# Altium footprint library Connectors_PLUS_headers.PcbLib: 22 footprints (part 2 of 2)
Each footprint in its own frame and in the unit in brackets; x right, y up, seen from the top. Pads: shape width x height; smd on the part's side, far side on the other; paste and mask are expansions set on the pad; w line width, h text height; cw(c..) or ccw(c..) is an arc to the next point about the centre after c.
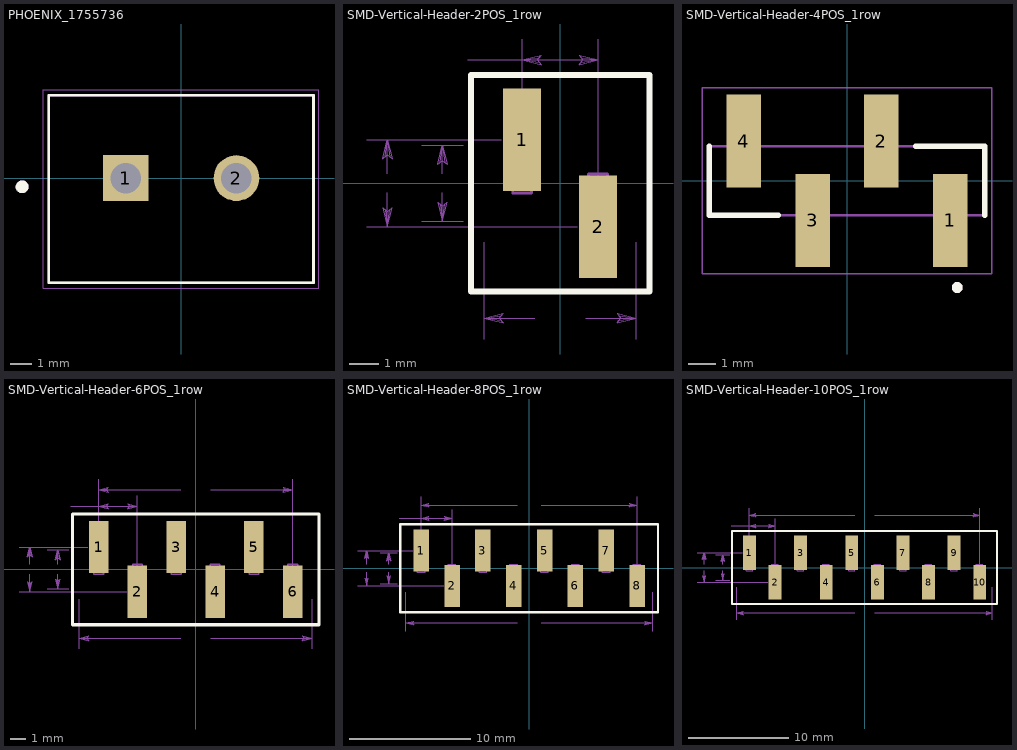
[diagram p1: the footprints below, top view; thin cyan lines are the x and y axes]

## PHOENIX_1755736 [mm] "Pluggable power connector"
height 15
pads (2):
  rect 2.1x2.1 hole 1.4: 1(-2.54,0)
  round 2.1 hole 1.4: 2(2.54,0)
Top Overlay:
  circle w0.3: c-7.3,-0.4 r0.141
  lines w0.127: -6.08,-4.8 -6.08,3.8 6.08,3.8 6.08,-4.8 -6.08,-4.8
Mechanical 13:
  circle w0.3: c-7.3,-0.4 r0.141
  lines w0.127: -6.08,-4.8 6.08,-4.8 6.08,3.8 -6.08,3.8 -6.08,-4.8
Mechanical 15:
  lines w0.05: -6.33,-5.05 6.33,-5.05 6.33,4.05 -6.33,4.05 -6.33,-5.05

## SMD-Vertical-Header-2POS_1row [mm]
pads (2):
  rect 1.27x3.43 smd: 1(-1.27,1.46) 2(1.27,-1.46)
Top Overlay:
  lines w0.2: -2.99,-3.627 2.99,-3.627 2.99,3.626 -2.99,3.626 -2.99,-3.627
Top Paste:
  rectangle: 0.635,-3.175 1.905,0.255
  rectangle: -1.905,-0.255 -0.635,3.175
Top Solder:
  rectangle: 0.584,-3.226 1.956,0.306
  rectangle: -1.956,-0.306 -0.584,3.226
Mechanical 16:
  lines w0.1: -1.586,-0.318 -0.951,-0.318 -0.951,0.318 -1.586,0.318 -1.586,-0.318 ; 0.951,-0.318 1.586,-0.318 1.586,0.318 0.951,0.318 0.951,-0.318
Mechanical 40:
  lines w0: -6.48,-1.46 0.569,-1.46 ; -6.48,1.46 -1.971,1.46 ; -5.778,-0.318 -5.778,-1.46 ; -5.778,0.318 -5.778,1.46 ; -4.638,-1.27 -3.241,-1.27 ; -4.638,1.27 -3.241,1.27 ; -3.937,-0.318 -3.937,-1.27 ; -3.937,0.318 -3.937,1.27 ; -3.086,4.128 -1.27,4.128 ; -2.54,-5.21 -2.54,-1.971 ; -1.27,2.162 -1.27,4.829 ; -0.851,-4.508 -2.54,-4.508 ; 0.851,-4.508 2.54,-4.508 ; 1.27,-0.759 1.27,4.829 ; 2.54,-5.21 2.54,-1.971 ; -5.937,-0.826 -5.858,-0.889 -5.778,-1.46 ; -5.937,-0.826 -5.778,-0.952 ; -5.937,-0.826 -5.778,-1.46 ; -5.778,-1.46 -5.778,-0.952 ; -5.778,-1.46 -5.699,-0.889 -5.778,-0.952 ; -5.778,-1.46 -5.62,-0.826 -5.778,-0.952 ; -5.778,0.952 -5.778,1.46 ; -5.778,0.952 -5.858,0.889 -5.778,1.46 ; -5.778,0.952 -5.62,0.826 ; -5.778,0.952 -5.937,0.826 -5.778,1.46 ; -5.778,1.46 -5.699,0.889 -5.62,0.826 ; -5.778,1.46 -5.62,0.826 ; -4.096,-0.635 -4.016,-0.698 -3.937,-1.27 ; -4.096,-0.635 -3.937,-0.762 ; -4.096,-0.635 -3.937,-1.27 ; -3.937,-1.27 -3.937,-0.762 ; -3.937,-1.27 -3.858,-0.698 -3.937,-0.762 ; -3.937,-1.27 -3.778,-0.635 -3.937,-0.762 ; -3.937,0.762 -3.937,1.27 ; -3.937,0.762 -4.016,0.698 -3.937,1.27 ; -3.937,0.762 -3.778,0.635 ; -3.937,0.762 -4.096,0.635 -3.937,1.27 ; -3.937,1.27 -3.858,0.698 -3.778,0.635 ; -3.937,1.27 -3.778,0.635 ; -2.54,-4.508 -1.968,-4.429 -1.905,-4.35 ; -2.54,-4.508 -2.032,-4.508 ; -2.54,-4.508 -1.968,-4.588 -2.032,-4.508 ; -2.54,-4.508 -1.905,-4.667 -2.032,-4.508 ; -2.54,-4.508 -1.905,-4.35 ; -2.032,-4.508 -1.905,-4.35 ; -1.27,4.128 1.27,4.128 ; -1.27,4.128 -0.698,4.207 -0.635,4.286 ; -1.27,4.128 -0.762,4.128 ; -1.27,4.128 -0.698,4.048 -0.762,4.128 ; -1.27,4.128 -0.635,3.969 -0.762,4.128 ; -1.27,4.128 -0.635,4.286 ; -0.762,4.128 -0.635,4.286 ; 0.635,3.969 0.698,4.048 1.27,4.128 ; 0.635,3.969 0.762,4.128 ; 0.635,3.969 1.27,4.128 ; 0.762,4.128 1.27,4.128 ; 0.762,4.128 0.698,4.207 1.27,4.128 ; 0.762,4.128 0.635,4.286 1.27,4.128 ; 1.905,-4.667 1.968,-4.588 2.54,-4.508 ; 1.905,-4.667 2.032,-4.508 ; 1.905,-4.667 2.54,-4.508 ; 2.032,-4.508 2.54,-4.508 ; 2.032,-4.508 1.968,-4.429 2.54,-4.508 ; 2.032,-4.508 1.905,-4.35 2.54,-4.508
  text "5.080" at -0.66,-4.636 h0.39
  text "2.540" at -4.597,4 h0.39
  text "2.540" at -4.597,-0.127 h0.39
  text "2.921" at -6.439,-0.127 h0.39
Mechanical 42:
  lines w0.1: -2.99,-3.627 2.99,-3.627 2.99,3.626 -2.99,3.626 -2.99,-3.627

## SMD-Vertical-Header-4POS_1row [mm] "2.54mm"
pads (4):
  rect 1.27x3.43 smd: 1(3.81,-1.46) 2(1.27,1.46) 3(-1.27,-1.46) 4(-3.81,1.46)
Top Overlay:
  circle w0.2: c4.06,-3.935 r0.1
  lines w0.2: -5.08,1.27 -5.08,-1.27 -2.54,-1.27 ; 2.54,1.27 5.08,1.27 5.08,-1.27
Mechanical 13:
  circle w0.2: c4.06,-3.935 r0.1
  lines w0.1: -5.08,-1.27 -5.08,1.27 5.08,1.27 5.08,-1.27 -5.08,-1.27
Mechanical 15:
  lines w0.05: -5.33,-3.425 -5.33,3.425 5.33,3.425 5.33,-3.425 -5.33,-3.425
3D body "TSM-104-01-F-SV-TR.stp": height 9.88, standoff 0.23, extent -5.08,-2.6 5.08,2.683

## SMD-Vertical-Header-6POS_1row [mm] "2.54"
pads (6):
  rect 1.27x3.43 smd: 1(-6.35,1.46) 2(-3.81,-1.46) 3(-1.27,1.46) 4(1.27,-1.46) 5(3.81,1.46) 6(6.35,-1.46)
Top Overlay:
  lines w0.2: -8.07,-3.627 8.07,-3.627 8.07,3.626 -8.07,3.626 -8.07,-3.627
Top Solder:
  rectangle: 5.664,-3.226 7.036,0.306
  rectangle: 3.124,-0.306 4.496,3.226
  rectangle: 0.584,-3.226 1.956,0.306
  rectangle: -1.956,-0.306 -0.584,3.226
  rectangle: -4.496,-3.226 -3.124,0.306
  rectangle: -7.036,-0.306 -5.664,3.226
Mechanical 16:
  lines w0.1: -6.666,-0.318 -6.031,-0.318 -6.031,0.318 -6.666,0.318 -6.666,-0.318 ; -4.129,-0.318 -3.494,-0.318 -3.494,0.318 -4.129,0.318 -4.129,-0.318 ; -1.586,-0.318 -0.951,-0.318 -0.951,0.318 -1.586,0.318 -1.586,-0.318 ; 0.951,-0.318 1.586,-0.318 1.586,0.318 0.951,0.318 0.951,-0.318 ; 3.494,-0.318 4.129,-0.318 4.129,0.318 3.494,0.318 3.494,-0.318 ; 6.031,-0.318 6.666,-0.318 6.666,0.318 6.031,0.318 6.031,-0.318
Mechanical 40:
  lines w0: -11.56,-1.46 -4.511,-1.46 ; -11.56,1.46 -7.051,1.46 ; -10.858,-0.318 -10.858,-1.46 ; -10.858,0.318 -10.858,1.46 ; -9.718,-1.27 -8.321,-1.27 ; -9.718,1.27 -8.321,1.27 ; -9.017,-0.318 -9.017,-1.27 ; -9.017,0.318 -9.017,1.27 ; -8.166,4.128 -6.35,4.128 ; -7.62,-5.21 -7.62,-1.971 ; -6.35,4.829 -6.35,2.162 -6.35,5.908 ; -3.81,-0.759 -3.81,4.829 ; -0.991,-4.508 -7.62,-4.508 ; -0.991,5.207 -6.35,5.207 ; 0.991,-4.508 7.62,-4.508 ; 0.991,5.207 6.35,5.207 ; 6.35,-0.759 6.35,5.908 ; 7.62,-5.21 7.62,-1.971 ; -11.017,-0.826 -10.938,-0.889 -10.858,-1.46 ; -11.017,-0.826 -10.858,-0.952 ; -11.017,-0.826 -10.858,-1.46 ; -10.858,-1.46 -10.858,-0.952 ; -10.858,-1.46 -10.779,-0.889 -10.858,-0.952 ; -10.858,-1.46 -10.7,-0.826 -10.858,-0.952 ; -10.858,0.952 -10.858,1.46 ; -10.858,0.952 -10.938,0.889 -10.858,1.46 ; -10.858,0.952 -10.7,0.826 ; -10.858,0.952 -11.017,0.826 -10.858,1.46 ; -10.858,1.46 -10.779,0.889 -10.7,0.826 ; -10.858,1.46 -10.7,0.826 ; -9.176,-0.635 -9.096,-0.698 -9.017,-1.27 ; -9.176,-0.635 -9.017,-0.762 ; -9.176,-0.635 -9.017,-1.27 ; -9.017,-1.27 -9.017,-0.762 ; -9.017,-1.27 -8.938,-0.698 -9.017,-0.762 ; -9.017,-1.27 -8.858,-0.635 -9.017,-0.762 ; -9.017,0.762 -9.017,1.27 ; -9.017,0.762 -9.096,0.698 -9.017,1.27 ; -9.017,0.762 -8.858,0.635 ; -9.017,0.762 -9.176,0.635 -9.017,1.27 ; -9.017,1.27 -8.938,0.698 -8.858,0.635 ; -9.017,1.27 -8.858,0.635 ; -7.62,-4.508 -7.048,-4.429 -6.985,-4.35 ; -7.62,-4.508 -7.112,-4.508 ; -7.62,-4.508 -7.048,-4.588 -7.112,-4.508 ; -7.62,-4.508 -6.985,-4.667 -7.112,-4.508 ; -7.62,-4.508 -6.985,-4.35 ; -7.112,-4.508 -6.985,-4.35 ; -6.35,4.128 -3.81,4.128 ; -6.35,4.128 -5.778,4.207 -5.715,4.286 ; -6.35,4.128 -5.842,4.128 ; -6.35,4.128 -5.778,4.048 -5.842,4.128 ; -6.35,4.128 -5.715,3.969 -5.842,4.128 ; -6.35,4.128 -5.715,4.286 ; -6.35,5.207 -5.778,5.286 -5.715,5.366 ; -6.35,5.207 -5.842,5.207 ; -6.35,5.207 -5.778,5.128 -5.842,5.207 ; -6.35,5.207 -5.715,5.048 -5.842,5.207 ; -6.35,5.207 -5.715,5.366 ; -5.842,4.128 -5.715,4.286 ; -5.842,5.207 -5.715,5.366 ; -4.445,3.969 -4.382,4.048 -3.81,4.128 ; -4.445,3.969 -4.318,4.128 ; -4.445,3.969 -3.81,4.128 ; -4.318,4.128 -3.81,4.128 ; -4.318,4.128 -4.382,4.207 -3.81,4.128 ; -4.318,4.128 -4.445,4.286 -3.81,4.128 ; 5.715,5.048 5.778,5.128 6.35,5.207 ; 5.715,5.048 5.842,5.207 ; 5.715,5.048 6.35,5.207 ; 5.842,5.207 6.35,5.207 ; 5.842,5.207 5.778,5.286 6.35,5.207 ; 5.842,5.207 5.715,5.366 6.35,5.207 ; 6.985,-4.667 7.048,-4.588 7.62,-4.508 ; 6.985,-4.667 7.112,-4.508 ; 6.985,-4.667 7.62,-4.508 ; 7.112,-4.508 7.62,-4.508 ; 7.112,-4.508 7.048,-4.429 7.62,-4.508 ; 7.112,-4.508 6.985,-4.35 7.62,-4.508
  text "12.700" at -0.8,5.08 h0.39
  text "15.240" at -0.8,-4.636 h0.39
  text "2.540" at -9.677,4 h0.39
  text "2.540" at -9.677,-0.127 h0.39
  text "2.921" at -11.519,-0.127 h0.39
Mechanical 42:
  lines w0.1: -8.07,-3.627 8.07,-3.627 8.07,3.626 -8.07,3.626 -8.07,-3.627
3D body "TSM-106-01-F-SV-TR.stp": height 9.68, standoff 0.03, extent -7.62,-2.842 7.62,2.442

## SMD-Vertical-Header-8POS_1row [mm] "2.54mm"
pads (8):
  rect 1.27x3.43 smd: 1(-8.89,1.46) 2(-6.35,-1.46) 3(-3.81,1.46) 4(-1.27,-1.46) 5(1.27,1.46) 6(3.81,-1.46) 7(6.35,1.46) 8(8.89,-1.46)
Top Overlay:
  lines w0.2: -10.61,-3.627 10.61,-3.627 10.61,3.626 -10.61,3.626 -10.61,-3.627
Top Solder:
  rectangle: 8.204,-3.226 9.576,0.306
  rectangle: 5.664,-0.306 7.036,3.226
  rectangle: 3.124,-3.226 4.496,0.306
  rectangle: 0.584,-0.306 1.956,3.226
  rectangle: -1.956,-3.226 -0.584,0.306
  rectangle: -4.496,-0.306 -3.124,3.226
  rectangle: -7.036,-3.226 -5.664,0.306
  rectangle: -9.576,-0.306 -8.204,3.226
Mechanical 16:
  lines w0.1: -9.206,-0.318 -8.571,-0.318 -8.571,0.318 -9.206,0.318 -9.206,-0.318 ; -6.669,-0.318 -6.034,-0.318 -6.034,0.318 -6.669,0.318 -6.669,-0.318 ; -4.126,-0.318 -3.491,-0.318 -3.491,0.318 -4.126,0.318 -4.126,-0.318 ; -1.589,-0.318 -0.954,-0.318 -0.954,0.318 -1.589,0.318 -1.589,-0.318 ; 0.954,-0.318 1.589,-0.318 1.589,0.318 0.954,0.318 0.954,-0.318 ; 3.491,-0.318 4.126,-0.318 4.126,0.318 3.491,0.318 3.491,-0.318 ; 6.034,-0.318 6.669,-0.318 6.669,0.318 6.034,0.318 6.034,-0.318 ; 8.571,-0.318 9.206,-0.318 9.206,0.318 8.571,0.318 8.571,-0.318
Mechanical 40:
  lines w0: -14.1,-1.46 -7.051,-1.46 ; -14.1,1.46 -9.591,1.46 ; -13.398,-0.318 -13.398,-1.46 ; -13.398,0.318 -13.398,1.46 ; -12.258,-1.27 -10.861,-1.27 ; -12.258,1.27 -10.861,1.27 ; -11.557,-0.318 -11.557,-1.27 ; -11.557,0.318 -11.557,1.27 ; -10.706,4.128 -8.89,4.128 ; -10.16,-5.21 -10.16,-1.971 ; -8.89,4.829 -8.89,2.162 -8.89,5.908 ; -6.35,-0.759 -6.35,4.829 ; -0.991,-4.508 -10.16,-4.508 ; -0.991,5.207 -8.89,5.207 ; 0.991,-4.508 10.16,-4.508 ; 0.991,5.207 8.89,5.207 ; 8.89,-0.759 8.89,5.908 ; 10.16,-5.21 10.16,-1.971 ; -13.557,-0.826 -13.478,-0.889 -13.398,-1.46 ; -13.557,-0.826 -13.398,-0.952 ; -13.557,-0.826 -13.398,-1.46 ; -13.398,-1.46 -13.398,-0.952 ; -13.398,-1.46 -13.319,-0.889 -13.398,-0.952 ; -13.398,-1.46 -13.24,-0.826 -13.398,-0.952 ; -13.398,0.952 -13.398,1.46 ; -13.398,0.952 -13.478,0.889 -13.398,1.46 ; -13.398,0.952 -13.24,0.826 ; -13.398,0.952 -13.557,0.826 -13.398,1.46 ; -13.398,1.46 -13.319,0.889 -13.24,0.826 ; -13.398,1.46 -13.24,0.826 ; -11.716,-0.635 -11.636,-0.698 -11.557,-1.27 ; -11.716,-0.635 -11.557,-0.762 ; -11.716,-0.635 -11.557,-1.27 ; -11.557,-1.27 -11.557,-0.762 ; -11.557,-1.27 -11.478,-0.698 -11.557,-0.762 ; -11.557,-1.27 -11.398,-0.635 -11.557,-0.762 ; -11.557,0.762 -11.557,1.27 ; -11.557,0.762 -11.636,0.698 -11.557,1.27 ; -11.557,0.762 -11.398,0.635 ; -11.557,0.762 -11.716,0.635 -11.557,1.27 ; -11.557,1.27 -11.478,0.698 -11.398,0.635 ; -11.557,1.27 -11.398,0.635 ; -10.16,-4.508 -9.588,-4.429 -9.525,-4.35 ; -10.16,-4.508 -9.652,-4.508 ; -10.16,-4.508 -9.588,-4.588 -9.652,-4.508 ; -10.16,-4.508 -9.525,-4.667 -9.652,-4.508 ; -10.16,-4.508 -9.525,-4.35 ; -9.652,-4.508 -9.525,-4.35 ; -8.89,4.128 -6.35,4.128 ; -8.89,4.128 -8.318,4.207 -8.255,4.286 ; -8.89,4.128 -8.382,4.128 ; -8.89,4.128 -8.318,4.048 -8.382,4.128 ; -8.89,4.128 -8.255,3.969 -8.382,4.128 ; -8.89,4.128 -8.255,4.286 ; -8.89,5.207 -8.318,5.286 -8.255,5.366 ; -8.89,5.207 -8.382,5.207 ; -8.89,5.207 -8.318,5.128 -8.382,5.207 ; -8.89,5.207 -8.255,5.048 -8.382,5.207 ; -8.89,5.207 -8.255,5.366 ; -8.382,4.128 -8.255,4.286 ; -8.382,5.207 -8.255,5.366 ; -6.985,3.969 -6.922,4.048 -6.35,4.128 ; -6.985,3.969 -6.858,4.128 ; -6.985,3.969 -6.35,4.128 ; -6.858,4.128 -6.35,4.128 ; -6.858,4.128 -6.922,4.207 -6.35,4.128 ; -6.858,4.128 -6.985,4.286 -6.35,4.128 ; 8.255,5.048 8.318,5.128 8.89,5.207 ; 8.255,5.048 8.382,5.207 ; 8.255,5.048 8.89,5.207 ; 8.382,5.207 8.89,5.207 ; 8.382,5.207 8.318,5.286 8.89,5.207 ; 8.382,5.207 8.255,5.366 8.89,5.207 ; 9.525,-4.667 9.588,-4.588 10.16,-4.508 ; 9.525,-4.667 9.652,-4.508 ; 9.525,-4.667 10.16,-4.508 ; 9.652,-4.508 10.16,-4.508 ; 9.652,-4.508 9.588,-4.429 10.16,-4.508 ; 9.652,-4.508 9.525,-4.35 10.16,-4.508
  text "17.780" at -0.8,5.08 h0.39
  text "20.320" at -0.8,-4.636 h0.39
  text "2.540" at -12.217,4 h0.39
  text "2.540" at -12.217,-0.127 h0.39
  text "2.921" at -14.059,-0.127 h0.39
Mechanical 42:
  lines w0.1: -10.61,-3.627 10.61,-3.627 10.61,3.626 -10.61,3.626 -10.61,-3.627

## SMD-Vertical-Header-10POS_1row [mm] "2.54mm"
pads (10):
  rect 1.27x3.43 smd: 1(-11.43,1.46) 2(-8.89,-1.46) 3(-6.35,1.46) 4(-3.81,-1.46) 5(-1.27,1.46) 6(1.27,-1.46) 7(3.81,1.46) 8(6.35,-1.46) 9(8.89,1.46) 10(11.43,-1.46)
Top Overlay:
  lines w0.2: -13.15,-3.627 13.15,-3.627 13.15,3.626 -13.15,3.626 -13.15,-3.627
Top Paste:
  rectangle: 10.795,-3.175 12.065,0.255
  rectangle: 8.255,-0.255 9.525,3.175
  rectangle: 5.715,-3.175 6.985,0.255
  rectangle: 3.175,-0.255 4.445,3.175
  rectangle: 0.635,-3.175 1.905,0.255
  rectangle: -1.905,-0.255 -0.635,3.175
  rectangle: -4.445,-3.175 -3.175,0.255
  rectangle: -6.985,-0.255 -5.715,3.175
  rectangle: -9.525,-3.175 -8.255,0.255
  rectangle: -12.065,-0.255 -10.795,3.175
Top Solder:
  rectangle: 10.744,-3.226 12.116,0.306
  rectangle: 8.204,-0.306 9.576,3.226
  rectangle: 5.664,-3.226 7.036,0.306
  rectangle: 3.124,-0.306 4.496,3.226
  rectangle: 0.584,-3.226 1.956,0.306
  rectangle: -1.956,-0.306 -0.584,3.226
  rectangle: -4.496,-3.226 -3.124,0.306
  rectangle: -7.036,-0.306 -5.664,3.226
  rectangle: -9.576,-3.226 -8.204,0.306
  rectangle: -12.116,-0.306 -10.744,3.226
Mechanical 16:
  lines w0.1: -11.746,-0.318 -11.111,-0.318 -11.111,0.318 -11.746,0.318 -11.746,-0.318 ; -9.209,-0.318 -8.574,-0.318 -8.574,0.318 -9.209,0.318 -9.209,-0.318 ; -6.666,-0.318 -6.031,-0.318 -6.031,0.318 -6.666,0.318 -6.666,-0.318 ; -4.129,-0.318 -3.494,-0.318 -3.494,0.318 -4.129,0.318 -4.129,-0.318 ; -1.586,-0.318 -0.951,-0.318 -0.951,0.318 -1.586,0.318 -1.586,-0.318 ; 0.951,-0.318 1.586,-0.318 1.586,0.318 0.951,0.318 0.951,-0.318 ; 3.494,-0.318 4.129,-0.318 4.129,0.318 3.494,0.318 3.494,-0.318 ; 6.031,-0.318 6.666,-0.318 6.666,0.318 6.031,0.318 6.031,-0.318 ; 8.574,-0.318 9.209,-0.318 9.209,0.318 8.574,0.318 8.574,-0.318 ; 11.111,-0.318 11.746,-0.318 11.746,0.318 11.111,0.318 11.111,-0.318
Mechanical 40:
  lines w0: -16.64,-1.46 -9.591,-1.46 ; -16.64,1.46 -12.131,1.46 ; -15.938,-0.318 -15.938,-1.46 ; -15.938,0.318 -15.938,1.46 ; -14.798,-1.27 -13.401,-1.27 ; -14.798,1.27 -13.401,1.27 ; -14.097,-0.318 -14.097,-1.27 ; -14.097,0.318 -14.097,1.27 ; -13.246,4.128 -11.43,4.128 ; -12.7,-5.21 -12.7,-1.971 ; -11.43,4.829 -11.43,2.162 -11.43,5.908 ; -8.89,-0.759 -8.89,4.829 ; -0.991,-4.508 -12.7,-4.508 ; -0.991,5.207 -11.43,5.207 ; 0.991,-4.508 12.7,-4.508 ; 0.991,5.207 11.43,5.207 ; 11.43,-0.759 11.43,5.908 ; 12.7,-5.21 12.7,-1.971 ; -16.097,-0.826 -16.018,-0.889 -15.938,-1.46 ; -16.097,-0.826 -15.938,-0.952 ; -16.097,-0.826 -15.938,-1.46 ; -15.938,-1.46 -15.938,-0.952 ; -15.938,-1.46 -15.859,-0.889 -15.938,-0.952 ; -15.938,-1.46 -15.78,-0.826 -15.938,-0.952 ; -15.938,0.952 -15.938,1.46 ; -15.938,0.952 -16.018,0.889 -15.938,1.46 ; -15.938,0.952 -15.78,0.826 ; -15.938,0.952 -16.097,0.826 -15.938,1.46 ; -15.938,1.46 -15.859,0.889 -15.78,0.826 ; -15.938,1.46 -15.78,0.826 ; -14.256,-0.635 -14.176,-0.698 -14.097,-1.27 ; -14.256,-0.635 -14.097,-0.762 ; -14.256,-0.635 -14.097,-1.27 ; -14.097,-1.27 -14.097,-0.762 ; -14.097,-1.27 -14.018,-0.698 -14.097,-0.762 ; -14.097,-1.27 -13.938,-0.635 -14.097,-0.762 ; -14.097,0.762 -14.097,1.27 ; -14.097,0.762 -14.176,0.698 -14.097,1.27 ; -14.097,0.762 -13.938,0.635 ; -14.097,0.762 -14.256,0.635 -14.097,1.27 ; -14.097,1.27 -14.018,0.698 -13.938,0.635 ; -14.097,1.27 -13.938,0.635 ; -12.7,-4.508 -12.128,-4.429 -12.065,-4.35 ; -12.7,-4.508 -12.192,-4.508 ; -12.7,-4.508 -12.128,-4.588 -12.192,-4.508 ; -12.7,-4.508 -12.065,-4.667 -12.192,-4.508 ; -12.7,-4.508 -12.065,-4.35 ; -12.192,-4.508 -12.065,-4.35 ; -11.43,4.128 -8.89,4.128 ; -11.43,4.128 -10.858,4.207 -10.795,4.286 ; -11.43,4.128 -10.922,4.128 ; -11.43,4.128 -10.858,4.048 -10.922,4.128 ; -11.43,4.128 -10.795,3.969 -10.922,4.128 ; -11.43,4.128 -10.795,4.286 ; -11.43,5.207 -10.858,5.286 -10.795,5.366 ; -11.43,5.207 -10.922,5.207 ; -11.43,5.207 -10.858,5.128 -10.922,5.207 ; -11.43,5.207 -10.795,5.048 -10.922,5.207 ; -11.43,5.207 -10.795,5.366 ; -10.922,4.128 -10.795,4.286 ; -10.922,5.207 -10.795,5.366 ; -9.525,3.969 -9.462,4.048 -8.89,4.128 ; -9.525,3.969 -9.398,4.128 ; -9.525,3.969 -8.89,4.128 ; -9.398,4.128 -8.89,4.128 ; -9.398,4.128 -9.462,4.207 -8.89,4.128 ; -9.398,4.128 -9.525,4.286 -8.89,4.128 ; 10.795,5.048 10.858,5.128 11.43,5.207 ; 10.795,5.048 10.922,5.207 ; 10.795,5.048 11.43,5.207 ; 10.922,5.207 11.43,5.207 ; 10.922,5.207 10.858,5.286 11.43,5.207 ; 10.922,5.207 10.795,5.366 11.43,5.207 ; 12.065,-4.667 12.128,-4.588 12.7,-4.508 ; 12.065,-4.667 12.192,-4.508 ; 12.065,-4.667 12.7,-4.508 ; 12.192,-4.508 12.7,-4.508 ; 12.192,-4.508 12.128,-4.429 12.7,-4.508 ; 12.192,-4.508 12.065,-4.35 12.7,-4.508
  text "22.860" at -0.8,5.08 h0.39
  text "25.400" at -0.8,-4.636 h0.39
  text "2.540" at -14.757,4 h0.39
  text "2.540" at -14.757,-0.127 h0.39
  text "2.921" at -16.599,-0.127 h0.39
Mechanical 42:
  lines w0.1: -13.15,-3.627 13.15,-3.627 13.15,3.626 -13.15,3.626 -13.15,-3.627